# Altium schematic symbol library FT232RL.SchLib: 1 symbol
Pins are listed as number, name and electrical type; pins without a type are passive.

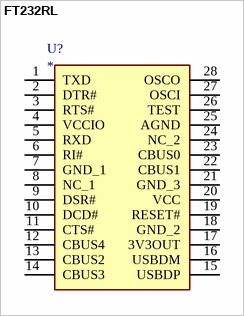
[diagram p0: symbol FT232RL]

## FT232RL
designator U?
datasheet: https://www.mouser.es/datasheet/2/163/DS_FT232R-11534.pdf; ComponentLink1Description: link; ComponentLink1URL: https://www.mouser.es/ProductDetail/FTDI/FT232RL-REEL?qs=D1%2FPMqvA103RC6OU6bKtoA%3D%3D
footprint SOP65P778X200-28N
pins: 1 TXD, 2 DTR#, 3 RTS#, 4 VCCIO, 5 RXD, 6 RI#, 7 GND_1, 8 NC_1, 9 DSR#, 10 DCD#, 11 CTS#, 12 CBUS4, 13 CBUS2, 14 CBUS3, 15 USBDP, 16 USBDM, 17 3V3OUT, 18 GND_2, 19 RESET#, 20 VCC, 21 GND_3, 22 CBUS1, 23 CBUS0, 24 NC_2, 25 AGND, 26 TEST, 27 OSCI, 28 OSCO